# Altium schematic symbol library Schlib1.SchLib: 2 symbols
Pins are listed as number, name and electrical type; pins without a type are passive.

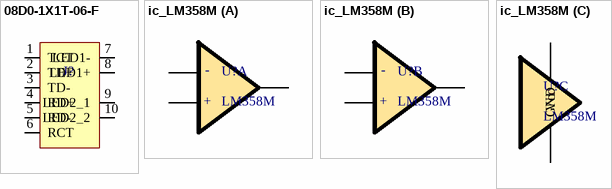
[diagram p0: symbols 08D0-1X1T-06-F to ic_LM358M]

## 08D0-1X1T-06-F
designator J?  (value not drawn)
supplier 1: Digi-Key; supplier part number 1: 507-1445-ND; helpurl: https://www.belfuse.com/resources/ICMs/ICMs%20Drawings/08B0-1X1T-06-F.pdf
footprint PCB_08D0-1X1T-06-F
pins: 1 TCT, 2 TD+, 3 TD-, 4 RD+, 5 RD-, 6 RCT, 7 LED1-, 8 LED1+, 9 LED2_1, 10 LED2_2

## ic_LM358M
designator U?, comment LM358M
Supplier 1: TME; supplier part number 1: LM358M; helpurl: https://www.onsemi.com/pub/Collateral/LM358-D.PDF
footprint PCB_SO8
part A pins: 1 OUT1, 2 IN1-, 3 IN1+
part B pins: 5 IN2+, 6 IN2-, 7 OUT2
part C pins: 4 GND, 8 Vcc
part A text: -; +
part B text: -; +